# Altium integrated library esaltlib20.IntLib: 186 symbols
Pins are listed as number, name and electrical type; pins without a type are passive.

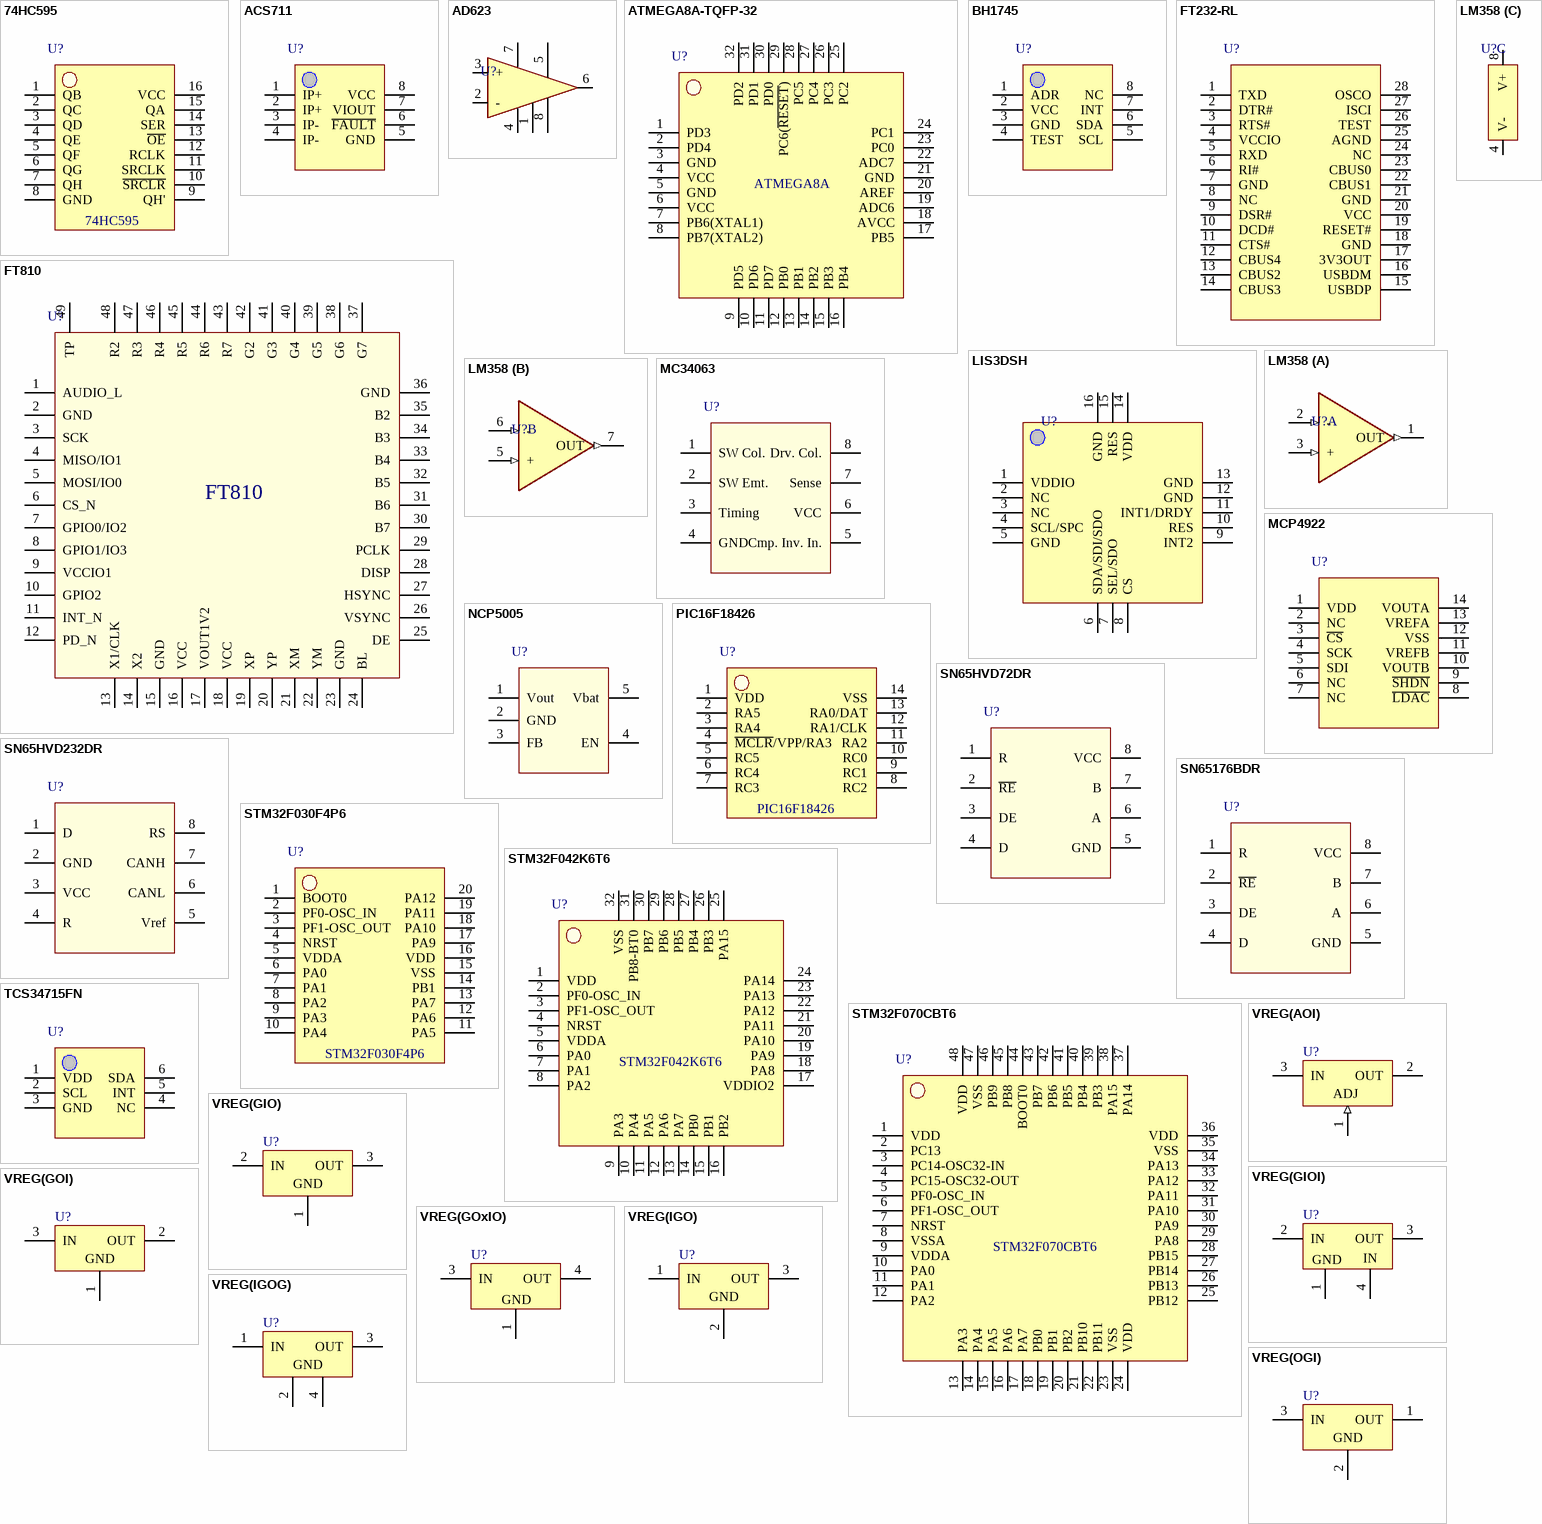
[diagram p0: symbols 74HC595 to VREG(OGI)]

## 74HC595
designator U?
pins: 1 QB, 2 QC, 3 QD, 4 QE, 5 QF, 6 QG, 7 QH, 8 GND, 9 QH', 10 ~{SRCLR}, 11 SRCLK, 12 RCLK, 13 ~{OE}, 14 SER, 15 QA, 16 VCC

## ACS711
designator U?
pins: 1 IP+, 2 IP+, 3 IP-, 4 IP-, 5 GND, 6 ~{FAULT}, 7 VIOUT, 8 VCC

## AD623
designator U?
pins: 1 Rg-, 2 -, 3 +, 4 V-, 5 Vref, 6 Out, 7 V+, 8 Rg+

## ATMEGA8A-TQFP-32
designator U?
pins: 1 PD3, 2 PD4, 3 GND, 4 VCC, 5 GND, 6 VCC, 7 PB6(XTAL1), 8 PB7(XTAL2), 9 PD5, 10 PD6, 11 PD7, 12 PB0, 13 PB1, 14 PB2, 15 PB3, 16 PB4, 17 PB5, 18 AVCC, 19 ADC6, 20 AREF, 21 GND, 22 ADC7, 23 PC0, 24 PC1, 25 PC2, 26 PC3, 27 PC4, 28 PC5, 29 PC6(~{RESET}), 30 PD0, 31 PD1, 32 PD2
text: ATMEGA8A

## BH1745
designator U?
pins: 1 ADR, 2 VCC, 3 GND, 4 TEST, 5 SCL, 6 SDA, 7 INT, 8 NC

## FT232-RL
designator U?
pins: 1 TXD, 2 DTR#, 3 RTS#, 4 VCCIO, 5 RXD, 6 RI#, 7 GND, 8 NC, 9 DSR#, 10 DCD#, 11 CTS#, 12 CBUS4, 13 CBUS2, 14 CBUS3, 15 USBDP, 16 USBDM, 17 3V3OUT, 18 GND, 19 RESET#, 20 VCC, 21 GND, 22 CBUS1, 23 CBUS0, 24 NC, 25 AGND, 26 TEST, 27 ISCI, 28 OSCO

## FT810
designator U?
pins: 1 AUDIO_L, 2 GND, 3 SCK, 4 MISO/IO1, 5 MOSI/IO0, 6 CS_N, 7 GPIO0/IO2, 8 GPIO1/IO3, 9 VCCIO1, 10 GPIO2, 11 INT_N, 12 PD_N, 13 X1/CLK, 14 X2, 15 GND, 16 VCC, 17 VOUT1V2, 18 VCC, 19 XP, 20 YP, 21 XM, 22 YM, 23 GND, 24 BL, 25 DE, 26 VSYNC, 27 HSYNC, 28 DISP, 29 PCLK, 30 B7, 31 B6, 32 B5, 33 B4, 34 B3, 35 B2, 36 GND, 37 G7, 38 G6, 39 G5, 40 G4, 41 G3, 42 G2, 43 R7, 44 R6, 45 R5, 46 R4, 47 R3, 48 R2, 49 TP

## LIS3DSH
designator U?
pins: 1 VDDIO (power), 2 NC (power), 3 NC (power), 4 SCL/SPC (power), 5 GND (power), 6 SDA/SDI/SDO (power), 7 SEL/SDO (power), 8 CS (power), 9 INT2 (power), 10 RES (power), 11 INT1/DRDY (power), 12 GND (power), 13 GND (power), 14 VDD (power), 15 RES (power), 16 GND (power)

## LM358
designator U?
part A pins: 1 OUT (out), 2 - (in), 3 + (in)
part B pins: 5 + (in), 6 - (in), 7 OUT (out)
part C pins: 4 V- (power), 8 V+ (power)

## MC34063
designator U?
pins: 1 SW Col., 2 SW Emt. (power), 3 Timing (power), 4 GND, 5 Cmp. Inv. In., 6 VCC, 7 Sense, 8 Drv. Col.

## MCP4922
designator U?
pins: 1 VDD, 2 NC, 3 ~{CS}, 4 SCK, 5 SDI, 6 NC, 7 NC, 8 ~{LDAC}, 9 ~{SHDN}, 10 VOUTB, 11 VREFB, 12 VSS, 13 VREFA, 14 VOUTA

## NCP5005
designator U?
pins: 1 Vout, 2 GND, 3 FB, 4 EN, 5 Vbat

## PIC16F18426
designator U?
pins: 1 VDD (power), 2 RA5 (power), 3 RA4 (power), 4 ~{MCLR}/VPP/RA3 (power), 5 RC5 (power), 6 RC4 (power), 7 RC3 (power), 8 RC2 (power), 9 RC1 (power), 10 RC0 (power), 11 RA2 (power), 12 RA1/CLK (power), 13 RA0/DAT (power), 14 VSS (power)

## SN65HVD72DR
designator U?
pins: 1 R, 2 ~{RE}, 3 DE, 4 D, 5 GND (power), 6 A, 7 B, 8 VCC (power)

## SN65HVD232DR
designator U?
pins: 1 D, 2 GND (power), 3 VCC (power), 4 R, 5 Vref, 6 CANL, 7 CANH, 8 RS

## SN65176BDR
designator U?
pins: 1 R, 2 ~{RE}, 3 DE, 4 D, 5 GND (power), 6 A, 7 B, 8 VCC (power)

## STM32F030F4P6
designator U?
footprint TSOP-20-M (TSOP, 20-Leads, Body 6.50x4.40mm, Pitch 0.65mm, IPC Low Density)
footprint TSOP-20-N (TSOP, 20-Leads, Body 6.50x4.40mm, Pitch 0.65mm, IPC Medium Density)
footprint TSOP-20-L (TSOP, 20-Leads, Body 6.50x4.40mm, Pitch 0.65mm, IPC High Density)
pins: 1 BOOT0 (power), 2 PF0-OSC_IN (power), 3 PF1-OSC_OUT (power), 4 NRST (power), 5 VDDA (power), 6 PA0 (power), 7 PA1 (power), 8 PA2 (power), 9 PA3 (power), 10 PA4 (power), 11 PA5 (power), 12 PA6 (power), 13 PA7 (power), 14 PB1 (power), 15 VSS (power), 16 VDD (power), 17 PA9 (power), 18 PA10 (power), 19 PA11 (power), 20 PA12 (power)

## STM32F042K6T6
designator U?
pins: 1 VDD (power), 2 PF0-OSC_IN, 3 PF1-OSC_OUT, 4 NRST, 5 VDDA (power), 6 PA0, 7 PA1, 8 PA2, 9 PA3, 10 PA4, 11 PA5, 12 PA6, 13 PA7, 14 PB0, 15 PB1, 16 PB2, 17 VDDIO2 (power), 18 PA8, 19 PA9, 20 PA10, 21 PA11, 22 PA12, 23 PA13, 24 PA14, 25 PA15, 26 PB3, 27 PB4, 28 PB5, 29 PB6, 30 PB7, 31 PB8-BT0, 32 VSS (power)

## STM32F070CBT6
designator U?
footprint TSQFP-48-M (TSQFP, 48-Leads, Body 7.00x7.00mm, Pitch 0.50mm, IPC Low Density)
footprint TSQFP-48-N (TSQFP, 48-Leads, Body 7.00x7.00mm, Pitch 0.50mm, IPC Medium Density)
footprint TSQFP-48-L (TSQFP, 48-Leads, Body 7.00x7.00mm, Pitch 0.50mm, IPC High Density)
pins: 1 VDD (power), 2 PC13, 3 PC14-OSC32-IN, 4 PC15-OSC32-OUT, 5 PF0-OSC_IN, 6 PF1-OSC_OUT, 7 NRST, 8 VSSA (power), 9 VDDA (power), 10 PA0, 11 PA1, 12 PA2, 13 PA3, 14 PA4, 15 PA5, 16 PA6, 17 PA7, 18 PB0, 19 PB1, 20 PB2, 21 PB10, 22 PB11, 23 VSS (power), 24 VDD (power), 25 PB12, 26 PB13, 27 PB14, 28 PB15, 29 PA8, 30 PA9, 31 PA10, 32 PA11, 33 PA12, 34 PA13, 35 VSS (power), 36 VDD (power), 37 PA14, 38 PA15, 39 PB3, 40 PB4, 41 PB5, 42 PB6, 43 PB7, 44 BOOT0, 45 PB8, 46 PB9, 47 VSS (power), 48 VDD (power)

## TCS34715FN
designator U?
pins: 1 VDD, 2 SCL, 3 GND, 4 NC, 5 INT, 6 SDA

## VREG(AOI)
designator U?
pins: 1 ADJ (in), 2 OUT (power), 3 IN (power)

## VREG(GIO)
designator U?
pins: 1 GND (power), 2 IN (power), 3 OUT (power)

## VREG(GIOI)
designator U?
pins: 1 GND (power), 2 IN (power), 3 OUT (power), 4 IN

## VREG(GOI)
designator U?
pins: 1 GND, 2 OUT (power), 3 IN (power)

## VREG(GOxIO)
designator U?
pins: 1 GND (power), 3 IN (power), 4 OUT (power)

## VREG(IGO)
designator U?
pins: 1 IN (power), 2 GND (power), 3 OUT (power)

## VREG(IGOG)
designator U?
pins: 1 IN (power), 2 GND (power), 3 OUT (power), 4 GND (power)

## VREG(OGI)
designator U?
pins: 1 OUT (power), 2 GND (power), 3 IN (power)


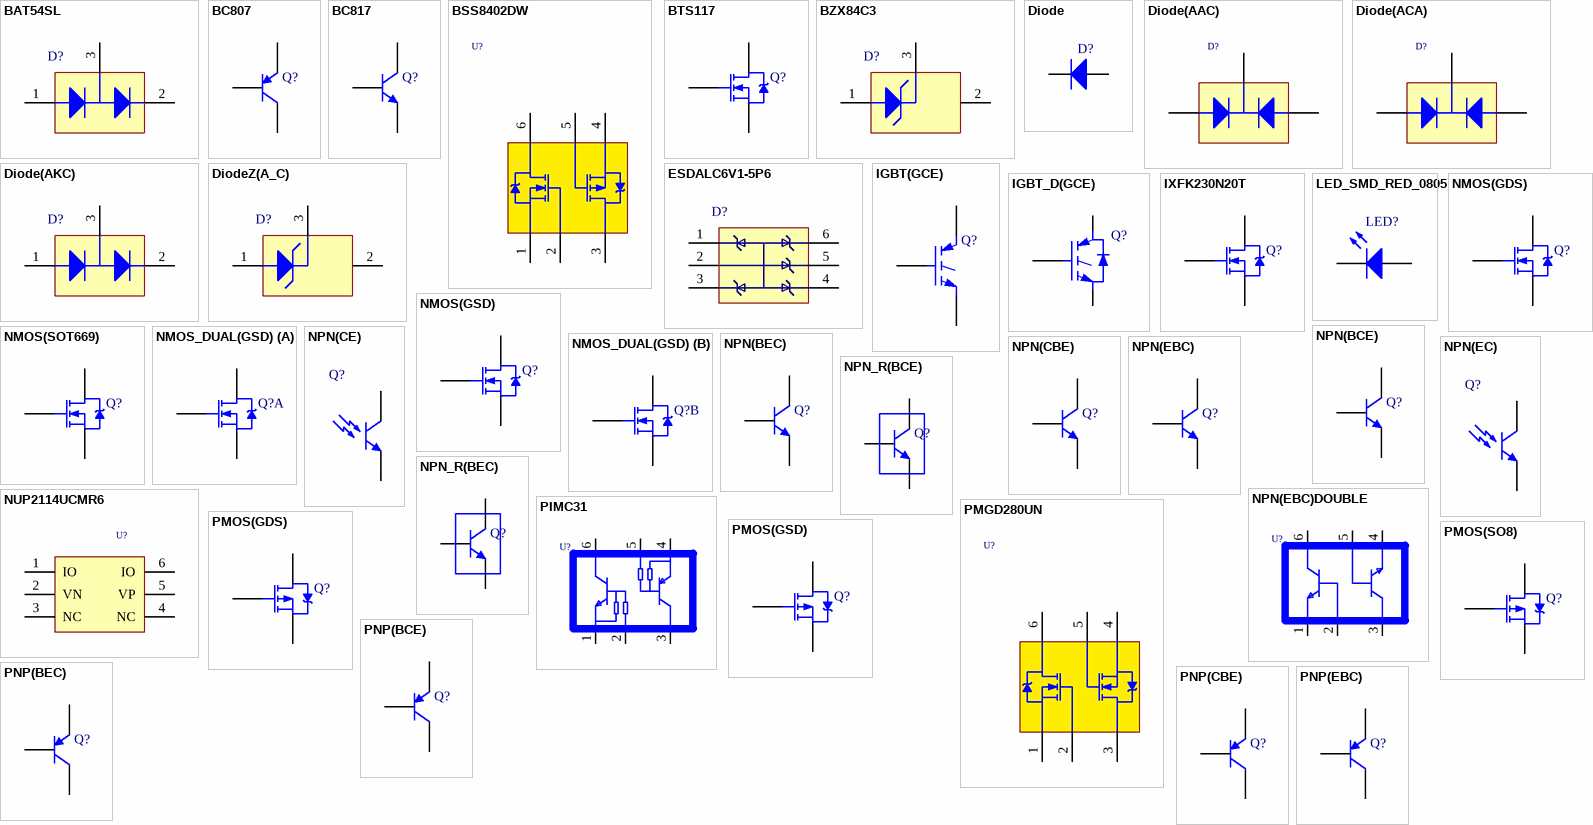
[diagram p1: symbols BAT54SL to PNP(EBC)]

## BAT54SL
designator D?
footprint SOT23-3-M (SOT23, 3-Leads, Body 2.90x2.45mm, Pitch 0.95mm, IPC Low Density)
footprint SOT23-3-N (SOT23, 3-Leads, Body 2.90x2.45mm, Pitch 0.95mm, IPC Medium Density)
footprint SOT23-3-L (SOT23, 3-Leads, Body 2.90x2.45mm, Pitch 0.95mm, IPC High Density)
pins: 1 A, 2 K, 3 COM

## BC807
designator Q?
footprint SOT23-3-M (SOT23, 3-Leads, Body 2.90x2.45mm, Pitch 0.95mm, IPC Low Density)
footprint SOT23-3-N (SOT23, 3-Leads, Body 2.90x2.45mm, Pitch 0.95mm, IPC Medium Density)
footprint SOT23-3-L (SOT23, 3-Leads, Body 2.90x2.45mm, Pitch 0.95mm, IPC High Density)
pins: 1 B, 2 E, 3 C

## BC817
designator Q?
footprint SOT23-3-M (SOT23, 3-Leads, Body 2.90x2.45mm, Pitch 0.95mm, IPC Low Density)
footprint SOT23-3-N (SOT23, 3-Leads, Body 2.90x2.45mm, Pitch 0.95mm, IPC Medium Density)
footprint SOT23-3-L (SOT23, 3-Leads, Body 2.90x2.45mm, Pitch 0.95mm, IPC High Density)
pins: 1 B, 2 E, 3 C

## BSS8402DW
designator U?
pins: 1 S1 (power), 2 G1, 3 D2, 4 S2, 5 G2, 6 D1

## BTS117
designator Q?
footprint TO220AB
pins: 1 G, 2 D, 3 S

## BZX84C3
designator D?
footprint SOT23-3-M (SOT23, 3-Leads, Body 2.90x2.45mm, Pitch 0.95mm, IPC Low Density)
footprint SOT23-3-N (SOT23, 3-Leads, Body 2.90x2.45mm, Pitch 0.95mm, IPC Medium Density)
footprint SOT23-3-L (SOT23, 3-Leads, Body 2.90x2.45mm, Pitch 0.95mm, IPC High Density)
pins: 1 A, 2 K, 3 COM

## Diode
designator D?
pins: 1 A, 2 K

## Diode(AAC)
designator D?
pins: 1 A, 2 A, 3 COM

## Diode(ACA)
designator D?
pins: 1 A, 2 COM, 3 A

## Diode(AKC)
designator D?
pins: 1 A, 2 K, 3 COM

## DiodeZ(A_C)
designator D?
pins: 1 A, 2 K, 3 COM

## ESDALC6V1-5P6
designator D?
pins: 1 IO, 2 VN, 3 NC, 4 NC, 5 VP, 6 IO

## IGBT(GCE)
designator Q?
Insulated Gate Bipolar Transistor
pins: 1 G, 2 C, 3 E

## IGBT_D(GCE)
designator Q?
Insulated Gate Bipolar Transistor with Soft Recovery Diode
pins: 1 G, 2 C, 3 E

## IXFK230N20T
designator Q?
footprint TO264-V
pins: 1 G, 2 D, 3 S

## LED_SMD_RED_0805
designator LED?
pins: 1 A, 2 K

## NMOS(GDS)
designator Q?
N-Channel MOSFET
pins: 1 G, 2 D, 3 S

## NMOS(GSD)
designator Q?
N-Channel MOSFET
pins: 1 G, 2 S, 3 D

## NMOS(SOT669)
designator Q?
N-Channel MOSFET
pins: 1 S, 2 S, 3 S, 4 G, 5 D

## NMOS_DUAL(GSD)
designator Q?
N-Channel MOSFET
part A pins: 1 G1, 5 S1, 6 D1
part B pins: 2 S2, 3 G2, 4 D2

## NPN(BCE)
designator Q?
pins: 1 B, 2 C, 3 E

## NPN(BEC)
designator Q?
pins: 1 B, 2 E, 3 C

## NPN(CBE)
designator Q?
pins: 1 C, 2 B, 3 E

## NPN(CE)
designator Q?
pins: 1 C, 2 E

## NPN(EBC)
designator Q?
pins: 1 E, 2 B, 3 C

## NPN(EBC)DOUBLE
designator U?
TRANS SMD NPN/PNP DUAL SOT363
pins: 1 1E, 2 1B, 3 2C, 4 2E, 5 2B, 6 1C

## NPN(EC)
designator Q?
pins: 1 E, 2 C

## NPN_R(BCE)
designator Q?
pins: 1 B, 2 C, 3 E

## NPN_R(BEC)
designator Q?
pins: 1 B, 2 E, 3 C

## NUP2114UCMR6
designator U?
pins: 1 IO, 2 VN, 3 NC, 4 NC, 5 VP, 6 IO

## PIMC31
designator U?
TRANS SMD NPN/PNP DUAL PUMD10 SOT363 50V 100mA
pins: 1 1E, 2 1B, 3 2C, 4 2E, 5 2B, 6 1C

## PMGD280UN
designator U?
pins: 1 S1 (power), 2 G1, 3 D2, 4 S2, 5 G2, 6 D1

## PMOS(GDS)
designator Q?
P-Channel MOSFET
pins: 1 G, 2 D, 3 S

## PMOS(GSD)
designator Q?
P-Channel MOSFET
pins: 1 G, 2 S, 3 D

## PMOS(SO8)
designator Q?
P-Channel MOSFET
pins: 2 S, 3 S, 4 G, 5 D, 6 D, 7 D, 8 D

## PNP(BCE)
designator Q?
pins: 1 B, 2 C, 3 E

## PNP(BEC)
designator Q?
pins: 1 B, 2 E, 3 C

## PNP(CBE)
designator Q?
pins: 1 C, 2 B, 3 E

## PNP(EBC)
designator Q?
pins: 1 E, 2 B, 3 C

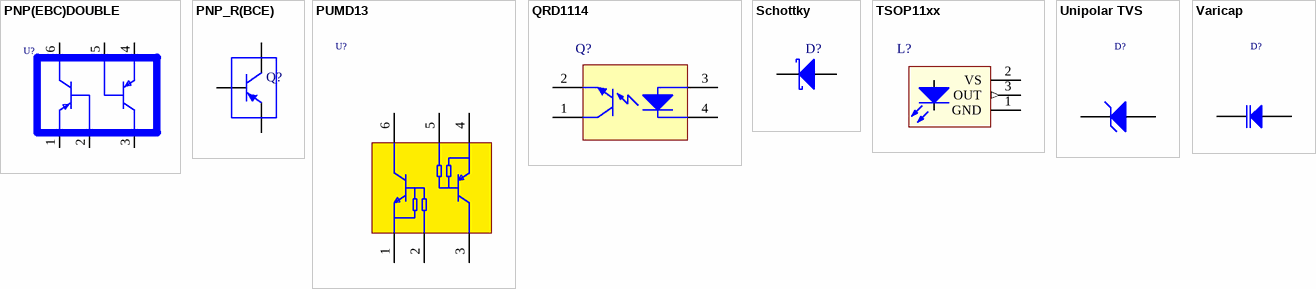
[diagram p2: symbols PNP(EBC)DOUBLE to Varicap]

## PNP(EBC)DOUBLE
designator U?
TRANS SMD NPN/PNP DUAL SOT363
pins: 1 1E, 2 1B, 3 2C, 4 2E, 5 2B, 6 1C

## PNP_R(BCE)
designator Q?
pins: 1 B, 2 C, 3 E

## PUMD13
designator U?
TRANS SMD NPN/PNP
pins: 1 1E (power), 2 1B, 3 2C, 4 2E, 5 2B, 6 1C

## QRD1114
designator Q?
pins: 1 C, 2 E, 3 A, 4 K

## Schottky
designator D?
pins: 1 A, 2 K

## TSOP11xx
designator L?
pins: 1 GND (power), 1 K, 2 VS (oe), 2 A, 3 OUT (out)

## Unipolar TVS
designator D?
pins: 1 A, 2 K
1 alternate drawing of the same symbol

## Varicap
designator D?
pins: 1 A, 2 K
1 alternate drawing of the same symbol


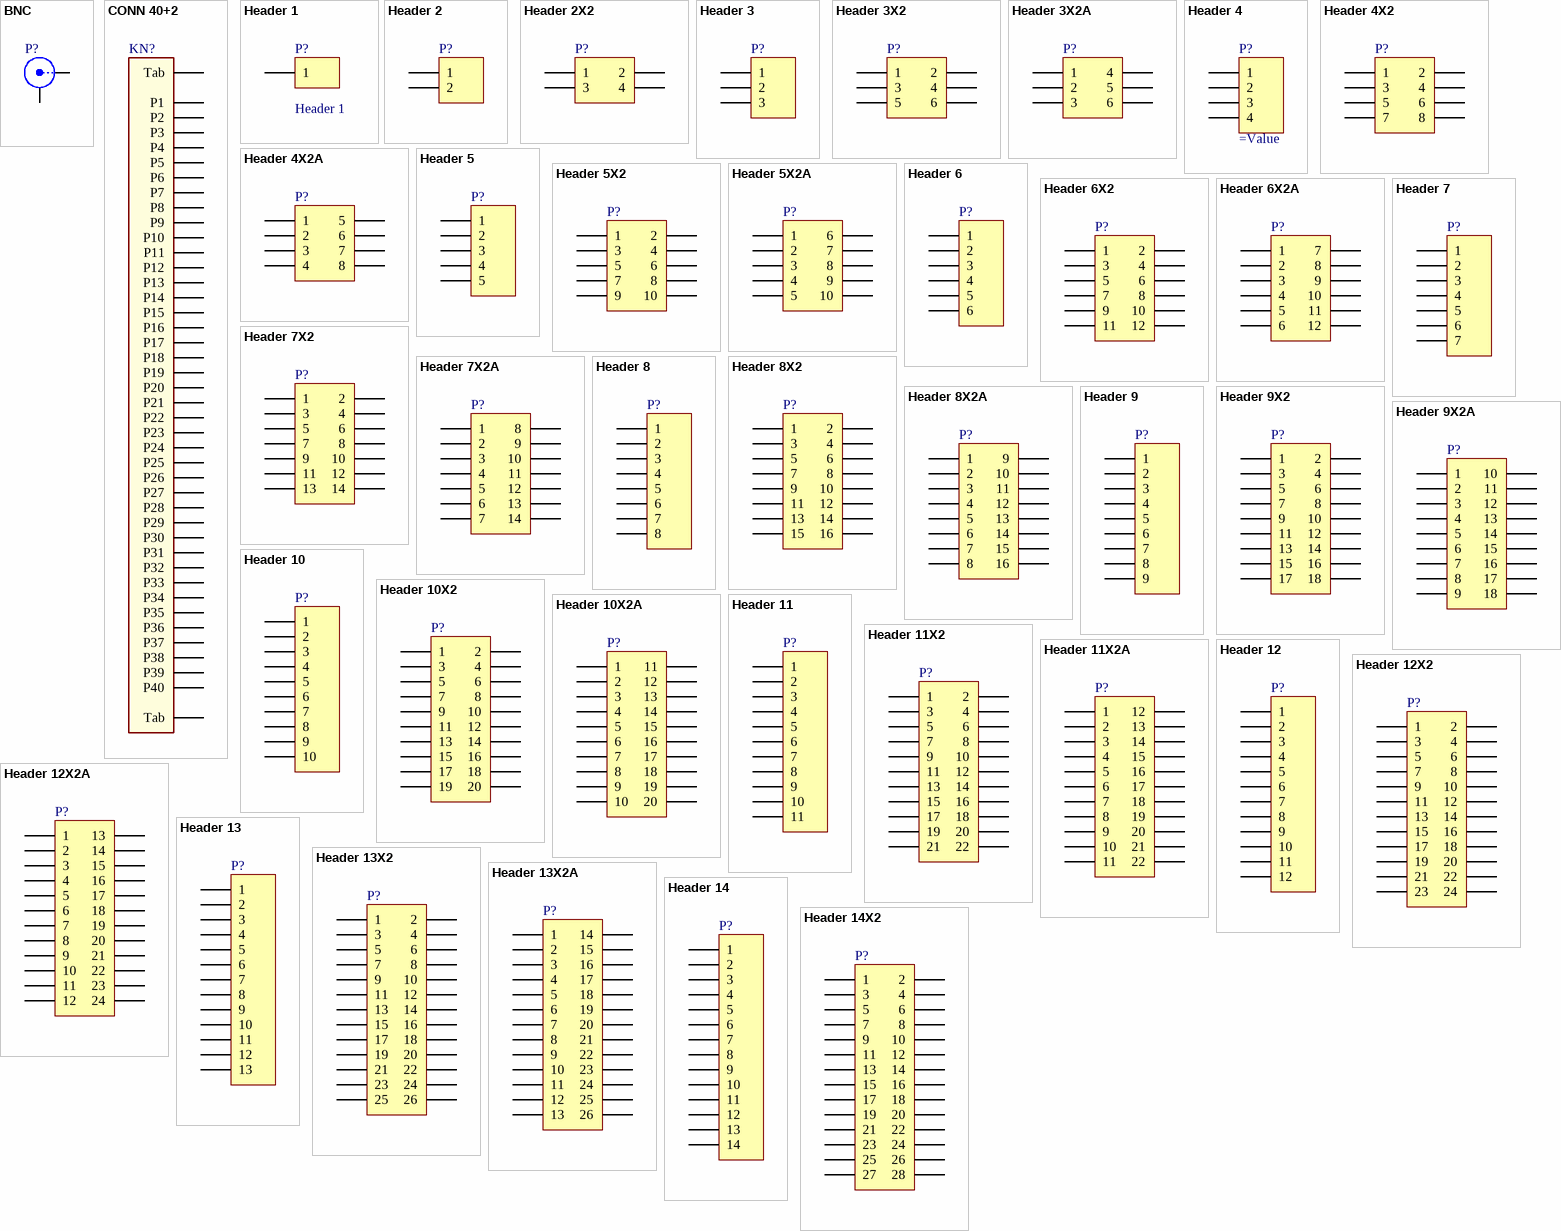
[diagram p3: symbols BNC to Header 14X2]

## BNC
designator P?
BNC Elbow Connector; LatestRevisionDate: 17-Jul-2002; LatestRevisionNote: Re-released for DXP Platform.; Publisher: Altium Limited
footprint BNC_RA CON (Connector; BNC Elbow)
signal-integrity model Connector
pins: 1 X, 2 Y

## CONN 40+2
designator KN?
pins: 1 P1, 2 P2, 3 P3, 4 P4, 5 P5, 6 P6, 7 P7, 8 P8, 9 P9, 10 P10, 11 P11, 12 P12, 13 P13, 14 P14, 15 P15, 16 P16, 17 P17, 18 P18, 19 P19, 20 P20, 21 P21, 22 P22, 23 P23, 24 P24, 25 P25, 26 P26, 27 P27, 28 P28, 29 P29, 30 P30, 31 P31, 32 P32, 33 P33, 34 P34, 35 P35, 36 P36, 37 P37, 38 P38, 39 P39, 40 P40, 41 Tab, 42 Tab

## Header 1
designator P?
Header, 1-Pin
pins: 1

## Header 2
designator P?
Header, 2-Pin; LatestRevisionDate: 17-Jul-2002; LatestRevisionNote: Re-released for DXP Platform.; Publisher: Altium Limited
footprint HDR1X2 (Connector; Header; 2 Position)
signal-integrity model Connector
pins: 1, 2

## Header 2X2
designator P?
Header, 2-Pin, Dual row; LatestRevisionDate: 17-Jul-2002; LatestRevisionNote: Re-released for DXP Platform.; Publisher: Altium Limited
footprint HDR2X2 (Connector; Header; 2x2 Position)
signal-integrity model Connector
pins: 1, 2, 3, 4

## Header 3
designator P?
Header, 3-Pin; LatestRevisionDate: 17-Jul-2002; LatestRevisionNote: Re-released for DXP Platform.; Publisher: Altium Limited
footprint HDR1X3 (Connector; Header; 3 Position)
signal-integrity model Connector
pins: 1, 2, 3

## Header 3X2
designator P?
Header, 3-Pin, Dual row; LatestRevisionDate: 17-Jul-2002; LatestRevisionNote: Re-released for DXP Platform.; Publisher: Altium Limited
footprint HDR2X3 (Connector; Header; 3x2 Position)
signal-integrity model Connector
pins: 1, 2, 3, 4, 5, 6

## Header 3X2A
designator P?
Header, 3-Pin, Dual row; LatestRevisionDate: 17-Jul-2002; LatestRevisionNote: Re-released for DXP Platform.; Publisher: Altium Limited
footprint HDR2X3_CEN (Connector; Header; 3x2 Position)
signal-integrity model Connector
pins: 1, 2, 3, 4, 5, 6

## Header 4
designator P?
Header, 4-Pin; LatestRevisionDate: 17-Jul-2002; LatestRevisionNote: Re-released for DXP Platform.; Publisher: Altium Limited
pins: 1, 2, 3, 4

## Header 4X2
designator P?
Header, 4-Pin, Dual row; LatestRevisionDate: 17-Jul-2002; LatestRevisionNote: Re-released for DXP Platform.; Publisher: Altium Limited
footprint HDR2X4 (Connector; Header; 4x2 Position)
signal-integrity model Connector
pins: 1, 2, 3, 4, 5, 6, 7, 8

## Header 4X2A
designator P?
Header, 4-Pin, Dual row; LatestRevisionDate: 17-Jul-2002; LatestRevisionNote: Re-released for DXP Platform.; Publisher: Altium Limited
footprint HDR2X4_CEN (Connector; Header; 4x2 Position)
signal-integrity model Connector
pins: 1, 2, 3, 4, 5, 6, 7, 8

## Header 5
designator P?
Header, 5-Pin; LatestRevisionDate: 17-Jul-2002; LatestRevisionNote: Re-released for DXP Platform.; Publisher: Altium Limited
footprint HDR1X5 (Connector; Header; 5 Position)
signal-integrity model Connector
pins: 1, 2, 3, 4, 5

## Header 5X2
designator P?
Header, 5-Pin, Dual row; LatestRevisionDate: 17-Jul-2002; LatestRevisionNote: Re-released for DXP Platform.; Publisher: Altium Limited
footprint HDR2X5 (Connector; Header; 5x2 Position)
signal-integrity model Connector
pins: 1, 2, 3, 4, 5, 6, 7, 8, 9, 10

## Header 5X2A
designator P?
Header, 5-Pin, Dual row; LatestRevisionDate: 17-Jul-2002; LatestRevisionNote: Re-released for DXP Platform.; Publisher: Altium Limited
footprint HDR2X5_CEN (Connector; Header; 5x2 Position)
signal-integrity model Connector
pins: 1, 2, 3, 4, 5, 6, 7, 8, 9, 10

## Header 6
designator P?
Header, 6-Pin; LatestRevisionDate: 17-Jul-2002; LatestRevisionNote: Re-released for DXP Platform.; Publisher: Altium Limited
footprint HDR1X6 (Connector; Header; 6 Position)
signal-integrity model Connector
pins: 1, 2, 3, 4, 5, 6

## Header 6X2
designator P?
Header, 6-Pin, Dual row; LatestRevisionDate: 17-Jul-2002; LatestRevisionNote: Re-released for DXP Platform.; Publisher: Altium Limited
footprint HDR2X6 (Connector; Header; 6x2 Position)
signal-integrity model Connector
pins: 1, 2, 3, 4, 5, 6, 7, 8, 9, 10, 11, 12

## Header 6X2A
designator P?
Header, 6-Pin, Dual row; LatestRevisionDate: 17-Jul-2002; LatestRevisionNote: Re-released for DXP Platform.; Publisher: Altium Limited
footprint HDR2X6_CEN (Connector; Header; 6x2 Position)
signal-integrity model Connector
pins: 1, 2, 3, 4, 5, 6, 7, 8, 9, 10, 11, 12

## Header 7
designator P?
Header, 7-Pin; LatestRevisionDate: 17-Jul-2002; LatestRevisionNote: Re-released for DXP Platform.; Publisher: Altium Limited
footprint HDR1X7 (Connector; Header; 7 Position)
signal-integrity model Connector
pins: 1, 2, 3, 4, 5, 6, 7

## Header 7X2
designator P?
Header, 7-Pin, Dual row; LatestRevisionDate: 17-Jul-2002; LatestRevisionNote: Re-released for DXP Platform.; Publisher: Altium Limited
footprint HDR2X7 (Connector; Header; 7x2 Position)
signal-integrity model Connector
pins: 1, 2, 3, 4, 5, 6, 7, 8, 9, 10, 11, 12, 13, 14

## Header 7X2A
designator P?
Header, 7-Pin, Dual row; LatestRevisionDate: 17-Jul-2002; LatestRevisionNote: Re-released for DXP Platform.; Publisher: Altium Limited
footprint HDR2X7_CEN (Connector; Header; 7x2 Position)
signal-integrity model Connector
pins: 1, 2, 3, 4, 5, 6, 7, 8, 9, 10, 11, 12, 13, 14

## Header 8
designator P?
Header, 8-Pin; LatestRevisionDate: 17-Jul-2002; LatestRevisionNote: Re-released for DXP Platform.; Publisher: Altium Limited
footprint HDR1X8 (Connector; Header; 8 Position)
signal-integrity model Connector
pins: 1, 2, 3, 4, 5, 6, 7, 8

## Header 8X2
designator P?
Header, 8-Pin, Dual row; LatestRevisionDate: 17-Jul-2002; LatestRevisionNote: Re-released for DXP Platform.; Publisher: Altium Limited
footprint HDR2X8 (Connector; Header; 8x2 Position)
signal-integrity model Connector
pins: 1, 2, 3, 4, 5, 6, 7, 8, 9, 10, 11, 12, 13, 14, 15, 16

## Header 8X2A
designator P?
Header, 8-Pin, Dual row; LatestRevisionDate: 17-Jul-2002; LatestRevisionNote: Re-released for DXP Platform.; Publisher: Altium Limited
footprint HDR2X8_CEN (Connector; Header; 8x2 Position)
signal-integrity model Connector
pins: 1, 2, 3, 4, 5, 6, 7, 8, 9, 10, 11, 12, 13, 14, 15, 16

## Header 9
designator P?
Header, 9-Pin; LatestRevisionDate: 17-Jul-2002; LatestRevisionNote: Re-released for DXP Platform.; Publisher: Altium Limited
footprint HDR1X9 (Connector; Header; 9 Position)
signal-integrity model Connector
pins: 1, 2, 3, 4, 5, 6, 7, 8, 9

## Header 9X2
designator P?
Header, 9-Pin, Dual row; LatestRevisionDate: 17-Jul-2002; LatestRevisionNote: Re-released for DXP Platform.; Publisher: Altium Limited
footprint HDR2X9 (Connector; Header; 9x2 Position)
signal-integrity model Connector
pins: 1, 2, 3, 4, 5, 6, 7, 8, 9, 10, 11, 12, 13, 14, 15, 16, 17, 18

## Header 9X2A
designator P?
Header, 9-Pin, Dual row; LatestRevisionDate: 17-Jul-2002; LatestRevisionNote: Re-released for DXP Platform.; Publisher: Altium Limited
footprint HDR2X9_CEN (Connector; Header; 9x2 Position)
signal-integrity model Connector
pins: 1, 2, 3, 4, 5, 6, 7, 8, 9, 10, 11, 12, 13, 14, 15, 16, 17, 18

## Header 10
designator P?
Header, 10-Pin; LatestRevisionDate: 17-Jul-2002; LatestRevisionNote: Re-released for DXP Platform.; Publisher: Altium Limited
footprint HDR1X10 (Connector; Header; 10 Position)
signal-integrity model Connector
pins: 1, 2, 3, 4, 5, 6, 7, 8, 9, 10

## Header 10X2
designator P?
Header, 10-Pin, Dual row; LatestRevisionDate: 17-Jul-2002; LatestRevisionNote: Re-released for DXP Platform.; Publisher: Altium Limited
footprint HDR2X10 (Connector; Header; 10x2 Position)
signal-integrity model Connector
pins: 1, 2, 3, 4, 5, 6, 7, 8, 9, 10, 11, 12, 13, 14, 15, 16, 17, 18, 19, 20

## Header 10X2A
designator P?
Header, 10-Pin, Dual row; LatestRevisionDate: 17-Jul-2002; LatestRevisionNote: Re-released for DXP Platform.; Publisher: Altium Limited
footprint HDR2X10_CEN (Connector; Header; 10x2 Position)
signal-integrity model Connector
pins: 1, 2, 3, 4, 5, 6, 7, 8, 9, 10, 11, 12, 13, 14, 15, 16, 17, 18, 19, 20

## Header 11
designator P?
Header, 11-Pin; LatestRevisionDate: 17-Jul-2002; LatestRevisionNote: Re-released for DXP Platform.; Publisher: Altium Limited
footprint HDR1X11 (Connector; Header; 11 Position)
signal-integrity model Connector
pins: 1, 2, 3, 4, 5, 6, 7, 8, 9, 10, 11

## Header 11X2
designator P?
Header, 11-Pin, Dual row; LatestRevisionDate: 17-Jul-2002; LatestRevisionNote: Re-released for DXP Platform.; Publisher: Altium Limited
footprint HDR2X11 (Connector; Header; 11x2 Position)
signal-integrity model Connector
pins: 1, 2, 3, 4, 5, 6, 7, 8, 9, 10, 11, 12, 13, 14, 15, 16, 17, 18, 19, 20, 21, 22

## Header 11X2A
designator P?
Header, 11-Pin, Dual row; LatestRevisionDate: 17-Jul-2002; LatestRevisionNote: Re-released for DXP Platform.; Publisher: Altium Limited
footprint HDR2X11_CEN (Connector; Header; 11x2 Position)
signal-integrity model Connector
pins: 1, 2, 3, 4, 5, 6, 7, 8, 9, 10, 11, 12, 13, 14, 15, 16, 17, 18, 19, 20, 21, 22

## Header 12
designator P?
Header, 12-Pin; LatestRevisionDate: 17-Jul-2002; LatestRevisionNote: Re-released for DXP Platform.; Publisher: Altium Limited
footprint HDR1X12 (Connector; Header; 12 Position)
signal-integrity model Connector
pins: 1, 2, 3, 4, 5, 6, 7, 8, 9, 10, 11, 12

## Header 12X2
designator P?
Header, 12-Pin, Dual row; LatestRevisionDate: 17-Jul-2002; LatestRevisionNote: Re-released for DXP Platform.; Publisher: Altium Limited
footprint HDR2X12 (Connector; Header; 12x2 Position)
signal-integrity model Connector
pins: 1, 2, 3, 4, 5, 6, 7, 8, 9, 10, 11, 12, 13, 14, 15, 16, 17, 18, 19, 20, 21, 22, 23, 24

## Header 12X2A
designator P?
Header, 12-Pin, Dual row; LatestRevisionDate: 17-Jul-2002; LatestRevisionNote: Re-released for DXP Platform.; Publisher: Altium Limited
footprint HDR2X12_CEN (Connector; Header; 12x2 Position)
signal-integrity model Connector
pins: 1, 2, 3, 4, 5, 6, 7, 8, 9, 10, 11, 12, 13, 14, 15, 16, 17, 18, 19, 20, 21, 22, 23, 24

## Header 13
designator P?
Header, 13-Pin; LatestRevisionDate: 17-Jul-2002; LatestRevisionNote: Re-released for DXP Platform.; Publisher: Altium Limited
footprint HDR1X13 (Connector; Header; 13 Position)
signal-integrity model Connector
pins: 1, 2, 3, 4, 5, 6, 7, 8, 9, 10, 11, 12, 13

## Header 13X2
designator P?
Header, 13-Pin, Dual row; LatestRevisionDate: 17-Jul-2002; LatestRevisionNote: Re-released for DXP Platform.; Publisher: Altium Limited
footprint HDR2X13 (Connector; Header; 13x2 Position)
signal-integrity model Connector
pins: 1, 2, 3, 4, 5, 6, 7, 8, 9, 10, 11, 12, 13, 14, 15, 16, 17, 18, 19, 20, 21, 22, 23, 24, 25, 26

## Header 13X2A
designator P?
Header, 13-Pin, Dual row; LatestRevisionDate: 17-Jul-2002; LatestRevisionNote: Re-released for DXP Platform.; Publisher: Altium Limited
footprint HDR2X13_CEN (Connector; Header; 13x2 Position)
signal-integrity model Connector
pins: 1, 2, 3, 4, 5, 6, 7, 8, 9, 10, 11, 12, 13, 14, 15, 16, 17, 18, 19, 20, 21, 22, 23, 24, 25, 26

## Header 14
designator P?
Header, 14-Pin; LatestRevisionDate: 17-Jul-2002; LatestRevisionNote: Re-released for DXP Platform.; Publisher: Altium Limited
footprint HDR1X14 (Connector; Header; 14 Position)
signal-integrity model Connector
pins: 1, 2, 3, 4, 5, 6, 7, 8, 9, 10, 11, 12, 13, 14

## Header 14X2
designator P?
Header, 14-Pin, Dual row; LatestRevisionDate: 17-Jul-2002; LatestRevisionNote: Re-released for DXP Platform.; Publisher: Altium Limited
footprint HDR2X14 (Connector; Header; 14x2 Position)
signal-integrity model Connector
pins: 1, 2, 3, 4, 5, 6, 7, 8, 9, 10, 11, 12, 13, 14, 15, 16, 17, 18, 19, 20, 21, 22, 23, 24, 25, 26, 27, 28

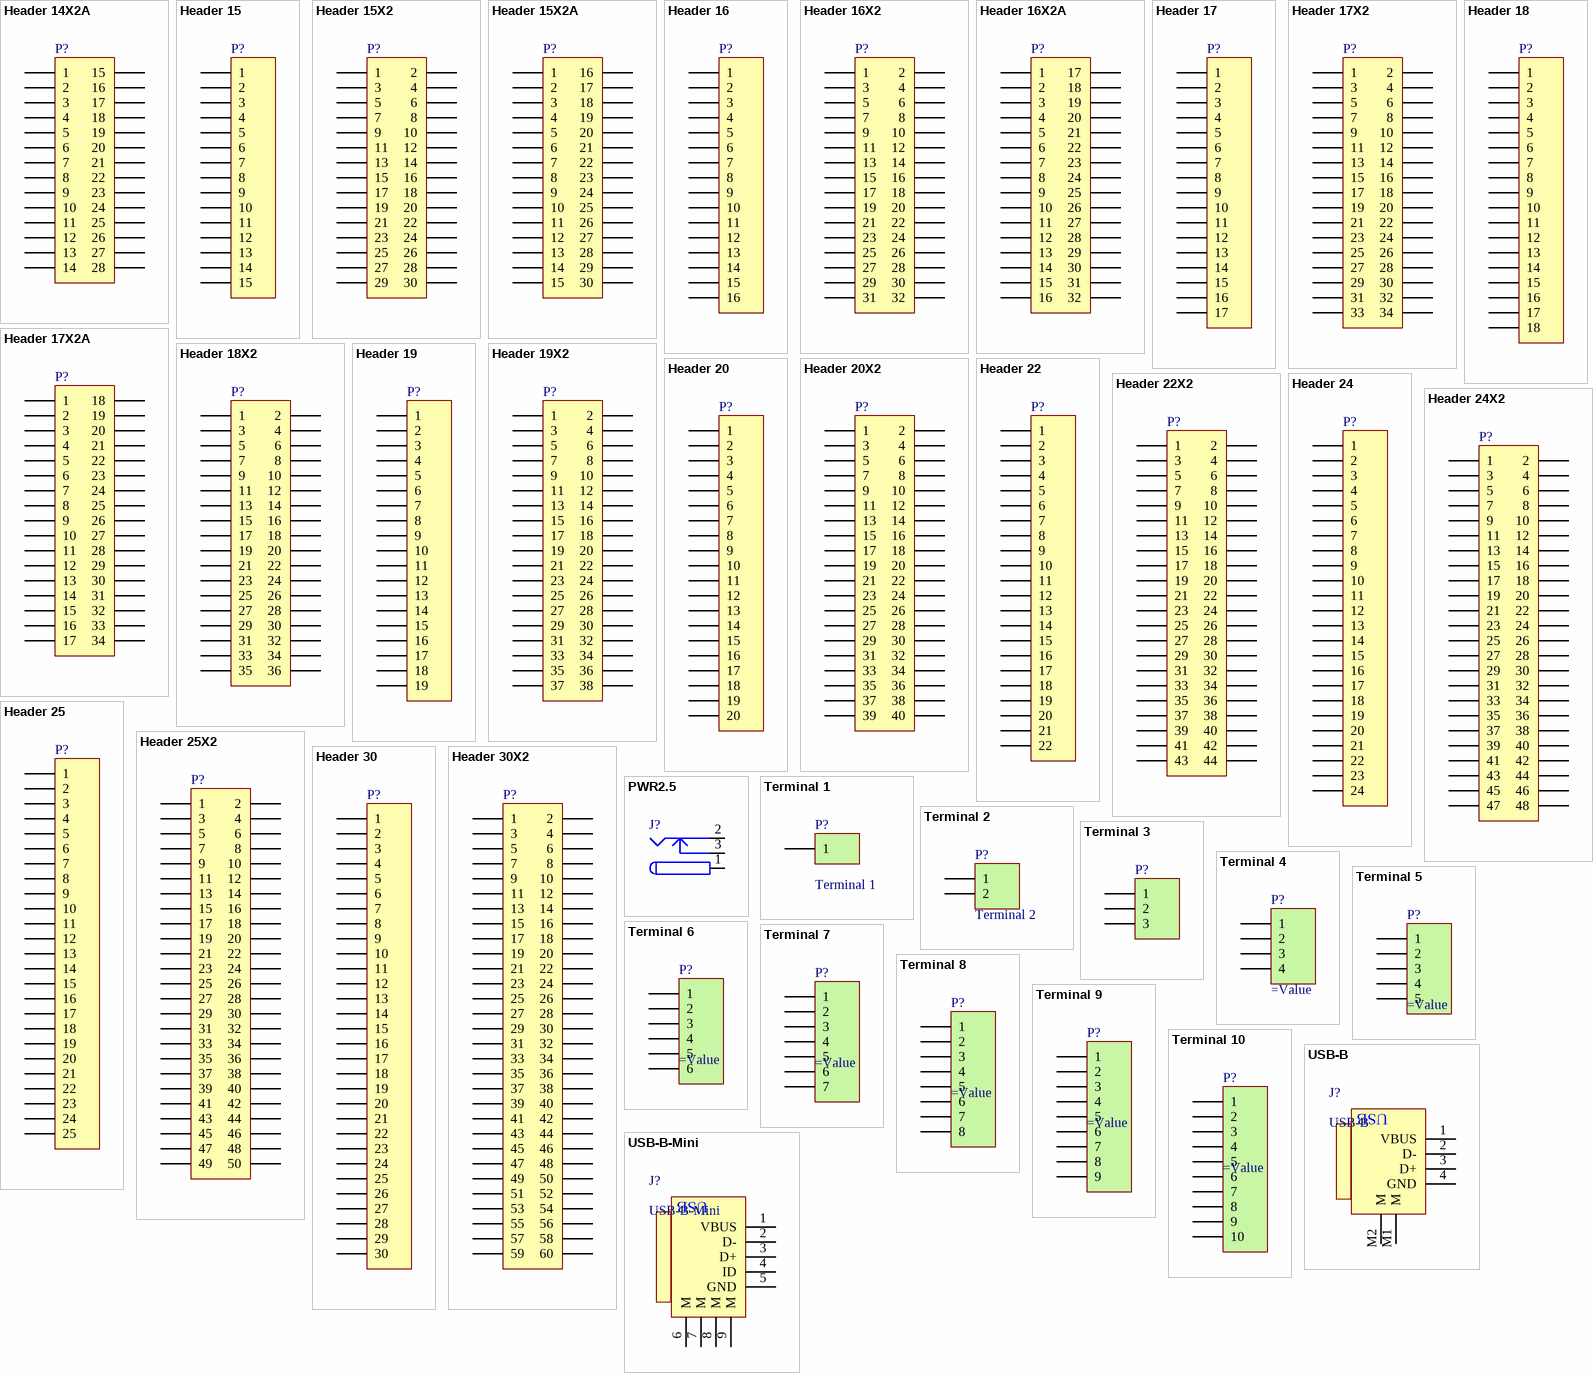
[diagram p4: symbols Header 14X2A to USB-B-Mini]

## Header 14X2A
designator P?
Header, 14-Pin, Dual row; LatestRevisionDate: 17-Jul-2002; LatestRevisionNote: Re-released for DXP Platform.; Publisher: Altium Limited
footprint HDR2X14_CEN (Connector; Header; 14x2 Position)
signal-integrity model Connector
pins: 1, 2, 3, 4, 5, 6, 7, 8, 9, 10, 11, 12, 13, 14, 15, 16, 17, 18, 19, 20, 21, 22, 23, 24, 25, 26, 27, 28

## Header 15
designator P?
Header, 15-Pin; LatestRevisionDate: 17-Jul-2002; LatestRevisionNote: Re-released for DXP Platform.; Publisher: Altium Limited
footprint HDR1X15 (Connector; Header; 15 Position)
signal-integrity model Connector
pins: 1, 2, 3, 4, 5, 6, 7, 8, 9, 10, 11, 12, 13, 14, 15

## Header 15X2
designator P?
Header, 15-Pin, Dual row; LatestRevisionDate: 17-Jul-2002; LatestRevisionNote: Re-released for DXP Platform.; Publisher: Altium Limited
footprint HDR2X15 (Connector; Header; 15x2 Position)
signal-integrity model Connector
pins: 1, 2, 3, 4, 5, 6, 7, 8, 9, 10, 11, 12, 13, 14, 15, 16, 17, 18, 19, 20, 21, 22, 23, 24, 25, 26, 27, 28, 29, 30

## Header 15X2A
designator P?
Header, 15-Pin, Dual row; LatestRevisionDate: 17-Jul-2002; LatestRevisionNote: Re-released for DXP Platform.; Publisher: Altium Limited
footprint HDR2X15_CEN (Connector; Header; 15x2 Position)
signal-integrity model Connector
pins: 1, 2, 3, 4, 5, 6, 7, 8, 9, 10, 11, 12, 13, 14, 15, 16, 17, 18, 19, 20, 21, 22, 23, 24, 25, 26, 27, 28, 29, 30

## Header 16
designator P?
Header, 16-Pin; LatestRevisionDate: 17-Jul-2002; LatestRevisionNote: Re-released for DXP Platform.; Publisher: Altium Limited
footprint HDR1X16 (Connector; Header; 16 Position)
signal-integrity model Connector
pins: 1, 2, 3, 4, 5, 6, 7, 8, 9, 10, 11, 12, 13, 14, 15, 16

## Header 16X2
designator P?
Header, 16-Pin, Dual row; LatestRevisionDate: 17-Jul-2002; LatestRevisionNote: Re-released for DXP Platform.; Publisher: Altium Limited
footprint HDR2X16 (Connector; Header; 16x2 Position)
signal-integrity model Connector
pins: 1, 2, 3, 4, 5, 6, 7, 8, 9, 10, 11, 12, 13, 14, 15, 16, 17, 18, 19, 20, 21, 22, 23, 24, 25, 26, 27, 28, 29, 30, 31, 32

## Header 16X2A
designator P?
Header, 16-Pin, Dual row; LatestRevisionDate: 17-Jul-2002; LatestRevisionNote: Re-released for DXP Platform.; Publisher: Altium Limited
footprint HDR2X16_CEN (Connector; Header; 16x2 Position)
signal-integrity model Connector
pins: 1, 2, 3, 4, 5, 6, 7, 8, 9, 10, 11, 12, 13, 14, 15, 16, 17, 18, 19, 20, 21, 22, 23, 24, 25, 26, 27, 28, 29, 30, 31, 32

## Header 17
designator P?
Header, 17-Pin; LatestRevisionDate: 17-Jul-2002; LatestRevisionNote: Re-released for DXP Platform.; Publisher: Altium Limited
footprint HDR1X17 (Connector; Header; 17 Position)
signal-integrity model Connector
pins: 1, 2, 3, 4, 5, 6, 7, 8, 9, 10, 11, 12, 13, 14, 15, 16, 17

## Header 17X2
designator P?
Header, 17-Pin, Dual row; LatestRevisionDate: 17-Jul-2002; LatestRevisionNote: Re-released for DXP Platform.; Publisher: Altium Limited
footprint HDR2X17 (Connector; Header; 17x2 Position)
signal-integrity model Connector
pins: 1, 2, 3, 4, 5, 6, 7, 8, 9, 10, 11, 12, 13, 14, 15, 16, 17, 18, 19, 20, 21, 22, 23, 24, 25, 26, 27, 28, 29, 30, 31, 32, 33, 34

## Header 17X2A
designator P?
Header, 17-Pin, Dual row; LatestRevisionDate: 17-Jul-2002; LatestRevisionNote: Re-released for DXP Platform.; Publisher: Altium Limited
footprint HDR2X17_CEN (Connector; Header; 17x2 Position)
signal-integrity model Connector
pins: 1, 2, 3, 4, 5, 6, 7, 8, 9, 10, 11, 12, 13, 14, 15, 16, 17, 18, 19, 20, 21, 22, 23, 24, 25, 26, 27, 28, 29, 30, 31, 32, 33, 34

## Header 18
designator P?
Header, 18-Pin; LatestRevisionDate: 17-Jul-2002; LatestRevisionNote: Re-released for DXP Platform.; Publisher: Altium Limited
footprint HDR1X18 (Connector; Header; 18 Position)
signal-integrity model Connector
pins: 1, 2, 3, 4, 5, 6, 7, 8, 9, 10, 11, 12, 13, 14, 15, 16, 17, 18

## Header 18X2
designator P?
Header, 18-Pin, Dual row; LatestRevisionDate: 17-Jul-2002; LatestRevisionNote: Re-released for DXP Platform.; Publisher: Altium Limited
footprint HDR2X18 (Connector; Header; 18x2 Position)
signal-integrity model Connector
pins: 1, 2, 3, 4, 5, 6, 7, 8, 9, 10, 11, 12, 13, 14, 15, 16, 17, 18, 19, 20, 21, 22, 23, 24, 25, 26, 27, 28, 29, 30, 31, 32, 33, 34, 35, 36

## Header 19
designator P?
Header, 19-Pin; LatestRevisionDate: 17-Jul-2002; LatestRevisionNote: Re-released for DXP Platform.; Publisher: Altium Limited
footprint HDR1X19 (Connector; Header; 19 Position)
signal-integrity model Connector
pins: 1, 2, 3, 4, 5, 6, 7, 8, 9, 10, 11, 12, 13, 14, 15, 16, 17, 18, 19

## Header 19X2
designator P?
Header, 19-Pin, Dual row; LatestRevisionDate: 17-Jul-2002; LatestRevisionNote: Re-released for DXP Platform.; Publisher: Altium Limited
footprint HDR2X19 (Connector; Header; 19x2 Position)
signal-integrity model Connector
pins: 1, 2, 3, 4, 5, 6, 7, 8, 9, 10, 11, 12, 13, 14, 15, 16, 17, 18, 19, 20, 21, 22, 23, 24, 25, 26, 27, 28, 29, 30, 31, 32, 33, 34, 35, 36, 37, 38

## Header 20
designator P?
Header, 20-Pin; LatestRevisionDate: 17-Jul-2002; LatestRevisionNote: Re-released for DXP Platform.; Publisher: Altium Limited
footprint HDR1X20 (Connector; Header; 20 Position)
signal-integrity model Connector
pins: 1, 2, 3, 4, 5, 6, 7, 8, 9, 10, 11, 12, 13, 14, 15, 16, 17, 18, 19, 20

## Header 20X2
designator P?
Header, 20-Pin, Dual row; LatestRevisionDate: 17-Jul-2002; LatestRevisionNote: Re-released for DXP Platform.; Publisher: Altium Limited
footprint HDR2X20 (Connector; Header; 20x2 Position)
signal-integrity model Connector
pins: 1, 2, 3, 4, 5, 6, 7, 8, 9, 10, 11, 12, 13, 14, 15, 16, 17, 18, 19, 20, 21, 22, 23, 24, 25, 26, 27, 28, 29, 30, 31, 32, 33, 34, 35, 36, 37, 38, 39, 40

## Header 22
designator P?
Header, 22-Pin; LatestRevisionDate: 17-Jul-2002; LatestRevisionNote: Re-released for DXP Platform.; Publisher: Altium Limited
footprint HDR1X22 (Connector; Header; 22 Position)
signal-integrity model Connector
pins: 1, 2, 3, 4, 5, 6, 7, 8, 9, 10, 11, 12, 13, 14, 15, 16, 17, 18, 19, 20, 21, 22

## Header 22X2
designator P?
Header, 22-Pin, Dual row; LatestRevisionDate: 17-Jul-2002; LatestRevisionNote: Re-released for DXP Platform.; Publisher: Altium Limited
footprint HDR2X22 (Connector; Header; 22x2 Position)
signal-integrity model Connector
pins: 1, 2, 3, 4, 5, 6, 7, 8, 9, 10, 11, 12, 13, 14, 15, 16, 17, 18, 19, 20, 21, 22, 23, 24, 25, 26, 27, 28, 29, 30, 31, 32, 33, 34, 35, 36, 37, 38, 39, 40, 41, 42, 43, 44

## Header 24
designator P?
Header, 24-Pin; LatestRevisionDate: 17-Jul-2002; LatestRevisionNote: Re-released for DXP Platform.; Publisher: Altium Limited
footprint HDR1X24 (Connector; Header; 24 Position)
signal-integrity model Connector
pins: 1, 2, 3, 4, 5, 6, 7, 8, 9, 10, 11, 12, 13, 14, 15, 16, 17, 18, 19, 20, 21, 22, 23, 24

## Header 24X2
designator P?
Header, 24-Pin, Dual row; LatestRevisionDate: 17-Jul-2002; LatestRevisionNote: Re-released for DXP Platform.; Publisher: Altium Limited
footprint HDR2X24 (Connector; Header; 24x2 Position)
signal-integrity model Connector
pins: 1, 2, 3, 4, 5, 6, 7, 8, 9, 10, 11, 12, 13, 14, 15, 16, 17, 18, 19, 20, 21, 22, 23, 24, 25, 26, 27, 28, 29, 30, 31, 32, 33, 34, 35, 36, 37, 38, 39, 40, 41, 42, 43, 44, 45, 46, 47, 48

## Header 25
designator P?
Header, 25-Pin; LatestRevisionDate: 17-Jul-2002; LatestRevisionNote: Re-released for DXP Platform.; Publisher: Altium Limited
footprint HDR1X25 (Connector; Header; 25 Position)
signal-integrity model Connector
pins: 1, 2, 3, 4, 5, 6, 7, 8, 9, 10, 11, 12, 13, 14, 15, 16, 17, 18, 19, 20, 21, 22, 23, 24, 25

## Header 25X2
designator P?
Header, 25-Pin, Dual row; LatestRevisionDate: 17-Jul-2002; LatestRevisionNote: Re-released for DXP Platform.; Publisher: Altium Limited
footprint HDR2X25 (Connector; Header; 25x2 Position)
signal-integrity model Connector
pins: 1, 2, 3, 4, 5, 6, 7, 8, 9, 10, 11, 12, 13, 14, 15, 16, 17, 18, 19, 20, 21, 22, 23, 24, 25, 26, 27, 28, 29, 30, 31, 32, 33, 34, 35, 36, 37, 38, 39, 40, 41, 42, 43, 44, 45, 46, 47, 48, 49, 50

## Header 30
designator P?
Header, 30-Pin; LatestRevisionDate: 17-Jul-2002; LatestRevisionNote: Re-released for DXP Platform.; Publisher: Altium Limited
footprint HDR1X30 (Connector; Header; 30 Position)
signal-integrity model Connector
pins: 1, 2, 3, 4, 5, 6, 7, 8, 9, 10, 11, 12, 13, 14, 15, 16, 17, 18, 19, 20, 21, 22, 23, 24, 25, 26, 27, 28, 29, 30

## Header 30X2
designator P?
Header, 30-Pin, Dual row; LatestRevisionDate: 17-Jul-2002; LatestRevisionNote: Re-released for DXP Platform.; Publisher: Altium Limited
footprint HDR2X30 (Connector; Header; 30x2 Position)
signal-integrity model Connector
pins: 1, 2, 3, 4, 5, 6, 7, 8, 9, 10, 11, 12, 13, 14, 15, 16, 17, 18, 19, 20, 21, 22, 23, 24, 25, 26, 27, 28, 29, 30, 31, 32, 33, 34, 35, 36, 37, 38, 39, 40, 41, 42, 43, 44, 45, 46, 47, 48, 49, 50, 51, 52, 53, 54, 55, 56, 57, 58, 59, 60

## PWR2.5
designator J?
Low Voltage Power Supply Connector; Published: 17-Dec-2003; DatasheetDocument: 09-May-2002; Publisher: Altium Limited; ComponentLink1Description: Manufacturer Link; ComponentLink1URL: http://domino.kycon.com/internet/Products.html
pins: 1 (power), 2 (power), 3 (power)

## Terminal 1
designator P?
Header, 1-Pin; LatestRevisionDate: 17-Jul-2002; LatestRevisionNote: Re-released for DXP Platform.; Publisher: Altium Limited
pins: 1

## Terminal 2
designator P?
Header, 2-Pin; LatestRevisionDate: 17-Jul-2002; LatestRevisionNote: Re-released for DXP Platform.; Publisher: Altium Limited
pins: 1, 2

## Terminal 3
designator P?
Header, 3-Pin; LatestRevisionDate: 17-Jul-2002; LatestRevisionNote: Re-released for DXP Platform.; Publisher: Altium Limited
footprint HDR1X3 (Connector; Header; 3 Position)
signal-integrity model Connector
pins: 1, 2, 3

## Terminal 4
designator P?
Header, 4-Pin; LatestRevisionDate: 17-Jul-2002; LatestRevisionNote: Re-released for DXP Platform.; Publisher: Altium Limited
pins: 1, 2, 3, 4

## Terminal 5
designator P?
Header, 5-Pin
pins: 1, 2, 3, 4, 5

## Terminal 6
designator P?
Header, 6-Pin
pins: 1, 2, 3, 4, 5, 6

## Terminal 7
designator P?
Header, 7-Pin
pins: 1, 2, 3, 4, 5, 6, 7

## Terminal 8
designator P?
Header, 8-Pin
pins: 1, 2, 3, 4, 5, 6, 7, 8

## Terminal 9
designator P?
Header, 9-Pin
pins: 1, 2, 3, 4, 5, 6, 7, 8, 9

## Terminal 10
designator P?
Header, 10-Pin
pins: 1, 2, 3, 4, 5, 6, 7, 8, 9, 10

## USB-B
designator J?
pins: 1 VBUS, 2 D-, 3 D+, 4 GND, M1 M, M2 M
text: USB

## USB-B-Mini
designator J?
pins: 1 VBUS, 2 D-, 3 D+, 4 ID, 5 GND, 6 M, 7 M, 8 M, 9 M
text: USB


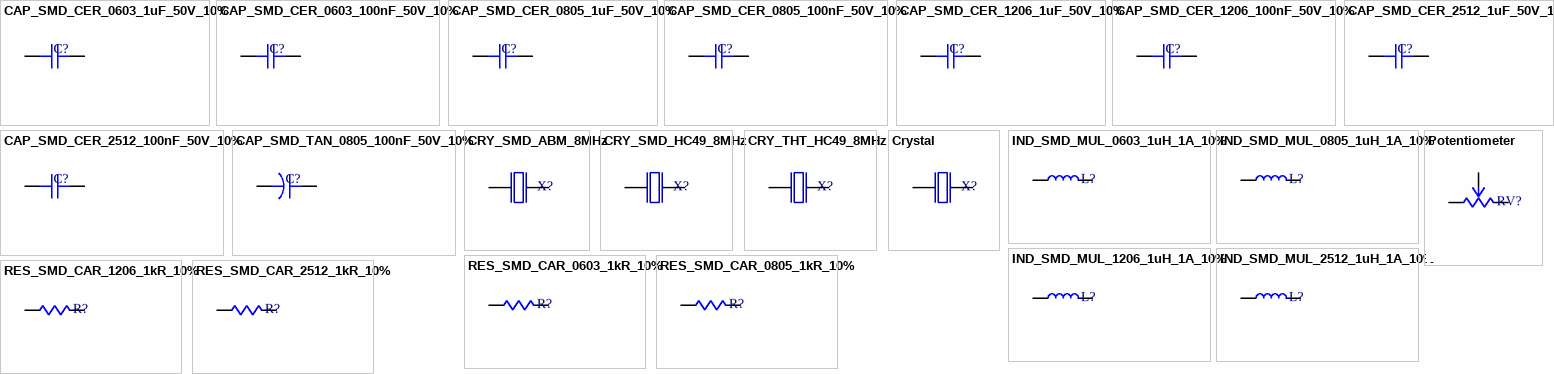
[diagram p5: symbols CAP_SMD_CER_0603_1uF_50V_10% to RES_SMD_CAR_2512_1kR_10%]

## CAP_SMD_CER_0603_1uF_50V_10%
designator C?
footprint CAPC-0603-M (Chip Capacitor, 2-Leads, Body 1.60x0.80mm, IPC Low Density)
footprint CAPC-0603-N (Chip Capacitor, 2-Leads, Body 1.60x0.80mm, IPC Medium Density)
footprint CAPC-0603-L (Chip Capacitor, 2-Leads, Body 1.60x0.80mm, IPC High Density)
pins: 1, 2

## CAP_SMD_CER_0603_100nF_50V_10%
designator C?
footprint CAPC-0603-M (Chip Capacitor, 2-Leads, Body 1.60x0.80mm, IPC Low Density)
footprint CAPC-0603-N (Chip Capacitor, 2-Leads, Body 1.60x0.80mm, IPC Medium Density)
footprint CAPC-0603-L (Chip Capacitor, 2-Leads, Body 1.60x0.80mm, IPC High Density)
pins: 1, 2

## CAP_SMD_CER_0805_1uF_50V_10%
designator C?
footprint CAPC-0805-M (Chip Capacitor, 2-Leads, Body 2.00x1.30mm, IPC Low Density)
footprint CAPC-0805-N (Chip Capacitor, 2-Leads, Body 2.00x1.30mm, IPC Medium Density)
footprint CAPC-0805-L (Chip Capacitor, 2-Leads, Body 2.00x1.30mm, IPC High Density)
pins: 1, 2

## CAP_SMD_CER_0805_100nF_50V_10%
designator C?
footprint CAPC-0805-M (Chip Capacitor, 2-Leads, Body 2.00x1.30mm, IPC Low Density)
footprint CAPC-0805-N (Chip Capacitor, 2-Leads, Body 2.00x1.30mm, IPC Medium Density)
footprint CAPC-0805-L (Chip Capacitor, 2-Leads, Body 2.00x1.30mm, IPC High Density)
pins: 1, 2

## CAP_SMD_CER_1206_1uF_50V_10%
designator C?
footprint CAPC-1206-M (Chip Capacitor, 2-Leads, Body 3.05x1.60mm, IPC Low Density)
footprint CAPC-1206-N (Chip Capacitor, 2-Leads, Body 3.05x1.60mm, IPC Medium Density)
footprint CAPC-1206-L (Chip Capacitor, 2-Leads, Body 3.05x1.60mm, IPC High Density)
pins: 1, 2

## CAP_SMD_CER_1206_100nF_50V_10%
designator C?
footprint CAPC-1206-M (Chip Capacitor, 2-Leads, Body 3.05x1.60mm, IPC Low Density)
footprint CAPC-1206-N (Chip Capacitor, 2-Leads, Body 3.05x1.60mm, IPC Medium Density)
footprint CAPC-1206-L (Chip Capacitor, 2-Leads, Body 3.05x1.60mm, IPC High Density)
pins: 1, 2

## CAP_SMD_CER_2512_1uF_50V_10%
designator C?
footprint CAPC-2512-M (Chip Capacitor, 2-Leads, Body 6.35x3.15mm, IPC Low Density)
footprint CAPC-2512-N (Chip Capacitor, 2-Leads, Body 6.35x3.15mm, IPC Medium Density)
footprint CAPC-2512-L (Chip Capacitor, 2-Leads, Body 6.35x3.15mm, IPC High Density)
pins: 1, 2

## CAP_SMD_CER_2512_100nF_50V_10%
designator C?
footprint CAPC-2512-M (Chip Capacitor, 2-Leads, Body 6.35x3.15mm, IPC Low Density)
footprint CAPC-2512-N (Chip Capacitor, 2-Leads, Body 6.35x3.15mm, IPC Medium Density)
footprint CAPC-2512-L (Chip Capacitor, 2-Leads, Body 6.35x3.15mm, IPC High Density)
pins: 1, 2

## CAP_SMD_TAN_0805_100nF_50V_10%
designator C?
pins: 1, 2

## CRY_SMD_ABM_8MHz
designator X?
footprint ABM3-8.000MHZ-D2Y-T
pins: 1 A, 2 B

## CRY_SMD_HC49_8MHz
designator X?
footprint HC49 US
pins: 1 A, 2 B

## CRY_THT_HC49_8MHz
designator X?
footprint HC49U
pins: 1 A, 2 B

## Crystal
designator X?
pins: 1 A, 2 B

## IND_SMD_MUL_0603_1uH_1A_10%
designator L?
footprint INDC-0603-M (Chip Inductor, 2-Leads, Body 1.60x0.80mm, IPC Low Density)
footprint INDC-0603-N (Chip Inductor, 2-Leads, Body 1.60x0.80mm, IPC Medium Density)
footprint INDC-0603-L (Chip Inductor, 2-Leads, Body 1.60x0.80mm, IPC High Density)
pins: 1 A, 2 B

## IND_SMD_MUL_0805_1uH_1A_10%
designator L?
footprint INDC-0805-M (Chip Inductor, 2-Leads, Body 2.00x1.30mm, IPC Low Density)
footprint INDC-0805-N (Chip Inductor, 2-Leads, Body 2.00x1.30mm, IPC Medium Density)
footprint INDC-0805-L (Chip Inductor, 2-Leads, Body 2.00x1.30mm, IPC High Density)
pins: 1 A, 2 B

## IND_SMD_MUL_1206_1uH_1A_10%
designator L?
footprint INDC-1206-M (Chip Inductor, 2-Leads, Body 3.05x1.60mm, IPC Low Density)
footprint INDC-1206-N (Chip Inductor, 2-Leads, Body 3.05x1.60mm, IPC Medium Density)
footprint INDC-1206-L (Chip Inductor, 2-Leads, Body 3.05x1.60mm, IPC High Density)
pins: 1 A, 2 B

## IND_SMD_MUL_2512_1uH_1A_10%
designator L?
footprint INDC-2512-M (Chip Inductor, 2-Leads, Body 6.35x3.15mm, IPC Low Density)
footprint INDC-2512-N (Chip Inductor, 2-Leads, Body 6.35x3.15mm, IPC Medium Density)
footprint INDC-2512-L (Chip Inductor, 2-Leads, Body 6.35x3.15mm, IPC High Density)
pins: 1 A, 2 B

## Potentiometer
designator RV?
pins: 1 A, 2 B, 3 C

## RES_SMD_CAR_0603_1kR_10%
designator R?
footprint RESC-0603-M (Chip Resistor, 2-Leads, Body 1.60x0.80mm, IPC Low Density)
footprint RESC-0603-N (Chip Resistor, 2-Leads, Body 1.60x0.80mm, IPC Medium Density)
footprint RESC-0603-L (Chip Resistor, 2-Leads, Body 1.60x0.80mm, IPC High Density)
pins: 1 A, 2 B

## RES_SMD_CAR_0805_1kR_10%
designator R?
footprint RESC-0805-M (Chip Resistor, 2-Leads, Body 2.00x1.30mm, IPC Low Density)
footprint RESC-0805-N (Chip Resistor, 2-Leads, Body 2.00x1.30mm, IPC Medium Density)
footprint RESC-0805-L (Chip Resistor, 2-Leads, Body 2.00x1.30mm, IPC High Density)
pins: 1 A, 2 B

## RES_SMD_CAR_1206_1kR_10%
designator R?
footprint RESC-1206-M (Chip Resistor, 2-Leads, Body 3.05x1.60mm, IPC Low Density)
footprint RESC-1206-N (Chip Resistor, 2-Leads, Body 3.05x1.60mm, IPC Medium Density)
footprint RESC-1206-L (Chip Resistor, 2-Leads, Body 3.05x1.60mm, IPC High Density)
pins: 1 A, 2 B

## RES_SMD_CAR_2512_1kR_10%
designator R?
footprint RESC-2512-M (Chip Resistor, 2-Leads, Body 6.35x3.15mm, IPC Low Density)
footprint RESC-2512-N (Chip Resistor, 2-Leads, Body 6.35x3.15mm, IPC Medium Density)
footprint RESC-2512-L (Chip Resistor, 2-Leads, Body 6.35x3.15mm, IPC High Density)
pins: 1 A, 2 B


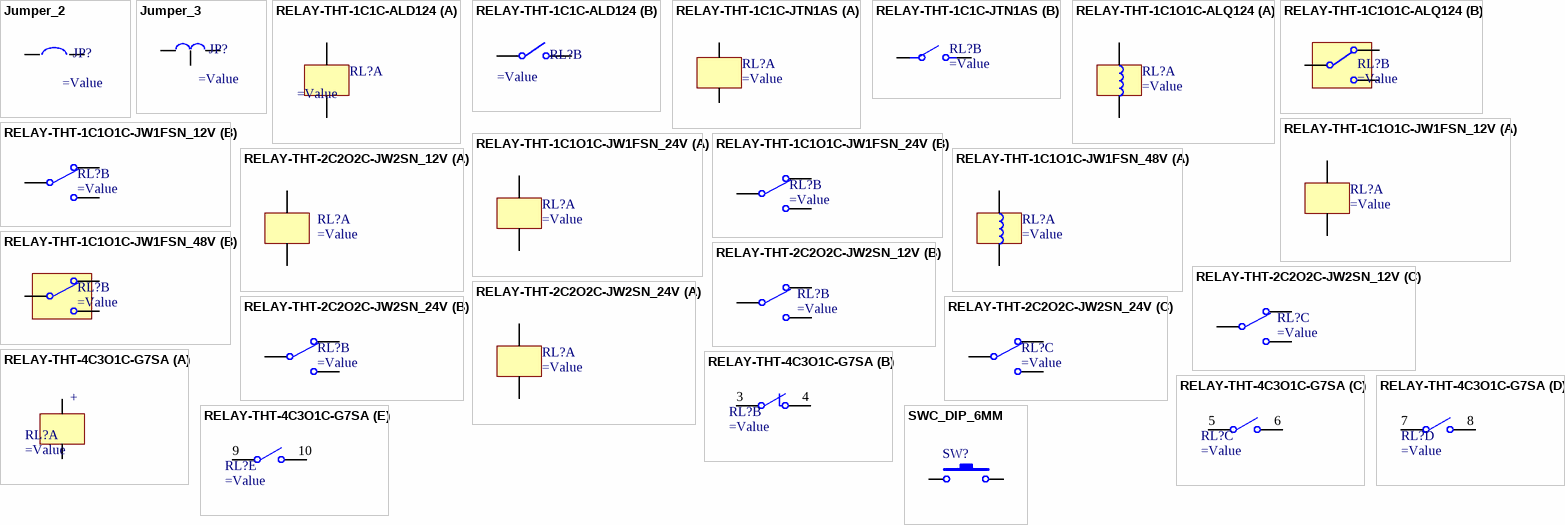
[diagram p6: symbols Jumper_2 to SWC_DIP_6MM]

## Jumper_2
designator JP?
pins: 1 A, 2 B

## Jumper_3
designator JP?
pins: 1 A, 2 B, 3 C

## RELAY-THT-1C1C-ALD124
designator RL?
part A pins: A1, A2 A1
part B pins: 1 COM, 2 NO

## RELAY-THT-1C1C-JTN1AS
designator RL?
part A pins: B1, B2
part B pins: COM, NO

## RELAY-THT-1C1O1C-ALQ124
designator RL?
part A pins: C1, C2
part B pins: 1 COM, 2 NC, 3 NO

## RELAY-THT-1C1O1C-JW1FSN_12V
designator RL?
part A pins: A1, A2 A1
part B pins: 1 COM, 2 NC, 3 NO

## RELAY-THT-1C1O1C-JW1FSN_24V
designator RL?
part A pins: A1, A2 A1
part B pins: 1 COM, 2 NC, 3 NO

## RELAY-THT-1C1O1C-JW1FSN_48V
designator RL?
part A pins: A1, A2 A1
part B pins: 1 COM, 2 NC, 3 NO

## RELAY-THT-2C2O2C-JW2SN_12V
designator RL?
part A pins: A1, A2 A1
part B pins: 1, 2, 3
part C pins: 4, 5, 6

## RELAY-THT-2C2O2C-JW2SN_24V
designator RL?
part A pins: A1, A2 A1
part B pins: 1, 2, 3
part C pins: 4, 5, 6

## RELAY-THT-4C3O1C-G7SA
designator RL?
part A pins: 1, 2
part B pins: 3, 4
part C pins: 5, 6
part D pins: 7, 8
part E pins: 9, 10
part A text: +

## SWC_DIP_6MM
designator SW?
Arkel Part#: 1001150; Manufacturer 1 Code: TC0102-X; Manufacturer 1: Wealth Metal Factory
footprint _DIP_MISC_SWT/5MM
footprint _DIP_MISC_SWTR/5MM
footprint _DIP_MISC_SWT/6MM
pins: 1, 2